# Altium schematic symbol library 5019400507.Schlib: 1 symbol
Pins are listed as number, name and electrical type; pins without a type are passive.

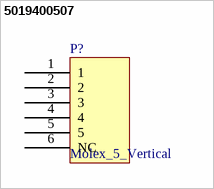
[diagram p0: symbol 5019400507]

## 5019400507
designator P?, comment Molex_5_Vertical
5 Pin Vertical Molex PCB Header
pins: 1, 2, 3, 4, 5, 6 NC